# Altium schematic symbol library LM5155DSSR.SchLib: 1 symbol
Pins are listed as number, name and electrical type; pins without a type are passive.

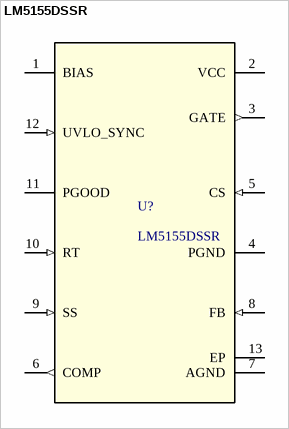
[diagram p0: symbol LM5155DSSR]

## LM5155DSSR
designator U?
2.2-MHz wide VIN, 1.5-A MOSFET driver, non-synchronous boost controller 12-WSON -40 to 125; Manufacturer_Name: Texas Instruments; TYPE: TYPE; RefDes: RefDes; Copyright: Copyright (C) 2025 Ultra Librarian. All rights reserved.; Manufacturer_Part_Number: LM5155DSSR
footprint DSS0012B
pins: 1 BIAS (power), 2 VCC (power), 3 GATE (out), 4 PGND (power), 5 CS (in), 6 COMP (out), 7 AGND (power), 8 FB (in), 9 SS (in), 10 RT (in), 11 PGOOD (oc), 12 UVLO_SYNC (in), 13 EP